# Altium footprint library PCB_CPU_BC.PcbLib: 27 footprints (part 2 of 2)
Each footprint in its own frame and in the unit in brackets; x right, y up, seen from the top. Pads: shape width x height; smd on the part's side, far side on the other; paste and mask are expansions set on the pad; w line width, h text height; cw(c..) or ccw(c..) is an arc to the next point about the centre after c.
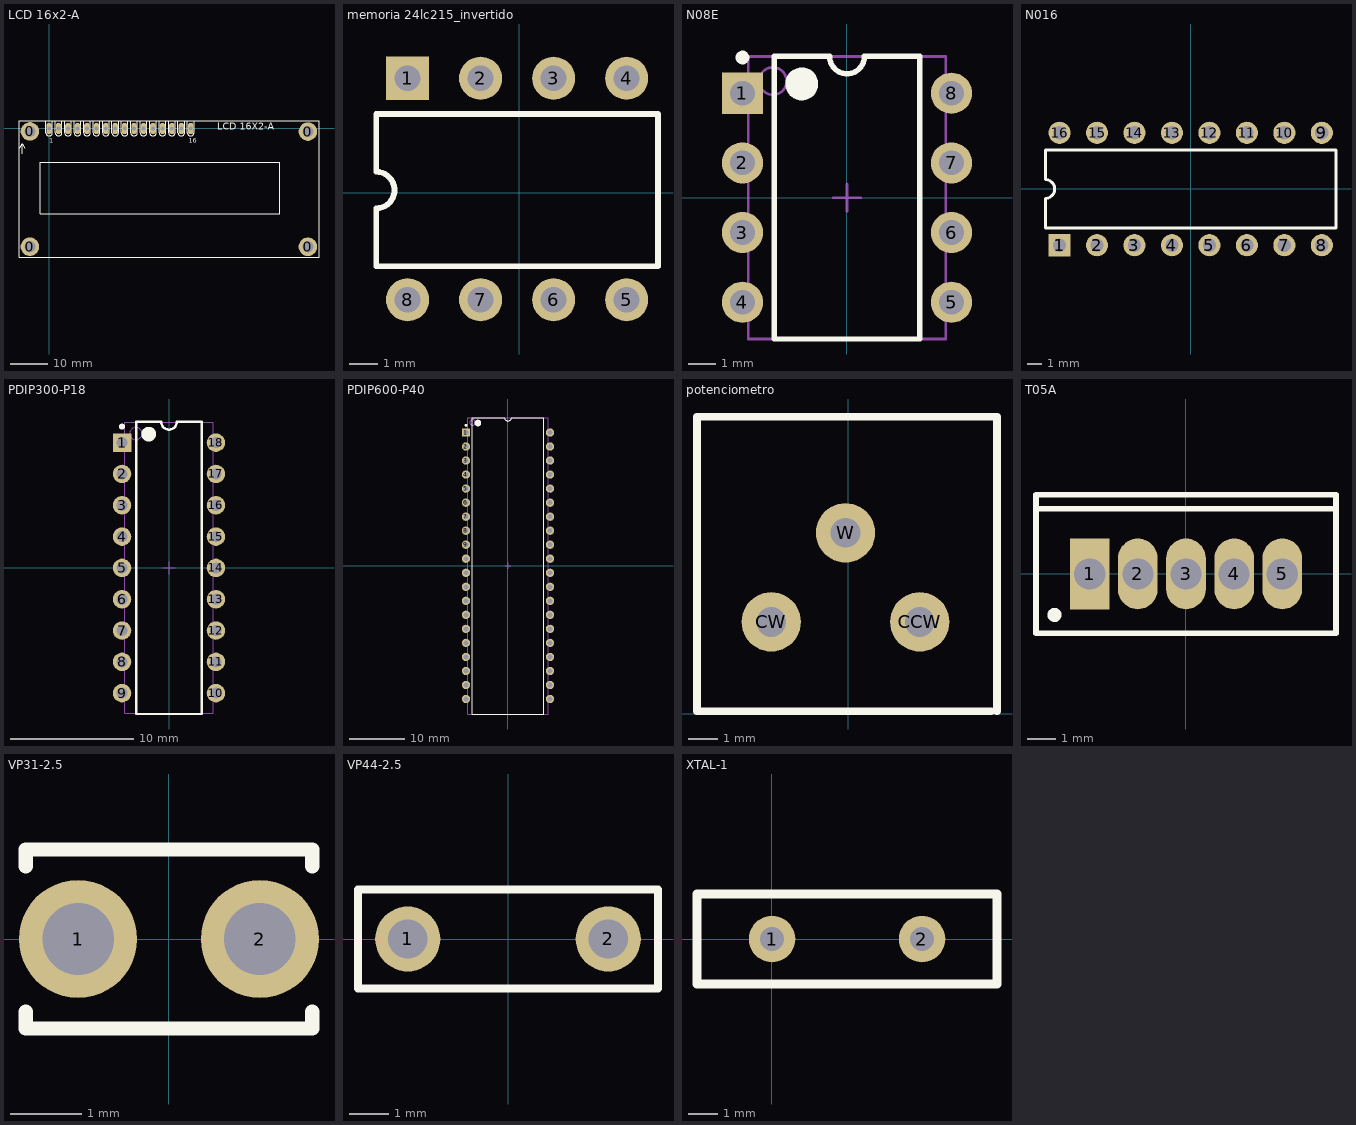
[diagram p1: the footprints below, top view; thin cyan lines are the x and y axes]

## LCD 16x2-A [mil] "Pantalla LCD 16 caracteres x 2 Lineas, conexion superior"
height 520.08
pads (20):
  round 196.85 hole 118.11: 0(-203.74,-1252.95) 0(-203.74,-31.5) 0(2742.13,-1253.94) 0(2742.13,-33.46)
  oct 60x120 hole 40: 1(0,0)
  oval 60x120 hole 40: 2(100,0) 3(200,0) 4(300,0) 5(400,0) 6(500,0) 7(600,0) 8(700,0) 9(800,0) 10(900,0) 11(1000,0) 12(1100,0) 13(1200,0) 14(1300,0) 15(1400,0) 16(1500,0)
Top Overlay:
  lines w5: -319.88,81.67 2859.25,81.67 2859.25,-1365.16 -319.88,-1365.16 -319.88,81.69 ; -310,-210 -285,-160 -260,-210 ; -285,-270.7 -285,-165 ; -35,81.69 -35,-45 ccw(c0,-45) 35,-45 35,80.71 ; 65,79.72 65,-45 ccw(c100,-45) 135,-45 135,80.71 ; 165,80.71 165,-45 ccw(c200,-45) 235,-45 235,80.71 ; 265,80.71 265,-45 ccw(c300,-45) 335,-45 335,80.71 ; 365,81.69 365,-45 ccw(c400,-45) 435,-45 435,81.69 ; 465,81.69 465,-45 ccw(c500,-45) 535,-45 535,79.72 ; 565,80.71 565,-45 ccw(c600,-45) 635,-45 635,81.69 ; 665,81.69 665,-45 ccw(c700,-45) 735,-45 735,81.5 ; 765,80.71 765,-45 ccw(c800,-45) 835,-45 835,80.71 ; 865,80.71 865,-45 ccw(c900,-45) 935,-45 935,80.71 ; 965,80.71 965,-45 ccw(c1000,-45) 1035,-45 1035,81.69 ; 1065,80.71 1065,-45 ccw(c1100,-45) 1135,-45 1135,81.69 ; 1165,80.71 1165,-45 ccw(c1200,-45) 1235,-45 1235,80.71 ; 1265,81.5 1265,-45 ccw(c1300,-45) 1335,-45 1335,79.72 ; 1365,79.72 1365,-45 ccw(c1400,-45) 1435,-45 1435,79.72 ; 1465,79.72 1465,-45 ccw(c1500,-45) 1535,-45 1535,78.74 ; -94.88,-901.6 2444.49,-901.6 2444.49,-358.3 -94.88,-358.3 -94.88,-901.6
  text "LCD 16X2-A" at 1781.26,-16.5 h75
  text "16" at 1480,-150 h50
  text "1" at 0,-150 h50
3D body: height 344.49, standoff -88.58, extent 1349.61,-50.2 1549.61,48.23
3D body: height 344.49, standoff -88.58, extent 1149.61,-50.2 1349.61,48.23
3D body: height 344.49, standoff -88.58, extent 949.61,-50.2 1149.61,48.23
3D body: height 344.49, standoff -88.58, extent 749.61,-50.2 949.61,48.23
3D body: height 344.49, standoff -88.58, extent 549.61,-50.2 749.61,48.23
3D body: height 344.49, standoff -88.58, extent 349.61,-50.2 549.61,48.23
3D body: height 344.49, standoff -88.58, extent 149.61,-50.2 349.61,48.23
3D body: height 344.49, standoff -88.58, extent -50.2,-50.2 149.8,48.23
3D body: height 532.11, standoff 12.11, extent -314.96,-1360.24 2854.33,76.77

## memoria 24lc215_invertido [mm] "potenciometro pequeño"
height 13.21
pads (8):
  rect 1.5x1.5 hole 0.9: 1(-3.878,3.988)
  round 1.5 hole 0.9: 2(-1.338,3.988) 3(1.202,3.988) 4(3.742,3.988) 5(3.742,-3.717) 6(1.202,-3.717) 7(-1.338,-3.717) 8(-3.878,-3.717)
Top Overlay:
  lines w0.2: -4.968,-2.552 4.832,-2.552 4.832,2.748 -4.968,2.748 -4.968,0.733 cw(c-4.968,0.098) -4.968,-0.537 -4.968,-2.552

## N08E [mm] "DIP, 8-Leads, Row Spacing 7.62mm, Pitch 2.54mm, Body 9.91x6.35mm"
height 5.34
pads (8):
  rect 1.5x1.5 hole 0.9: 1(-3.81,3.81)
  round 1.5 hole 0.9: 2(-3.81,1.27) 3(-3.81,-1.27) 4(-3.81,-3.81) 5(3.81,-3.81) 6(3.81,-1.27) 7(3.81,1.27) 8(3.81,3.81)
Top Overlay:
  circle w0.6: c-1.65,4.15 r0.3
  circle w0.25: c-3.81,5.11 r0.125
  lines w0.2: -2.65,-5.15 2.65,-5.15 2.65,5.15 0.635,5.15 cw(c0,5.15) -0.635,5.15 -2.65,5.15 -2.65,-5.15
Mechanical 13:
  circle w0.1: c-2.7,4.25 r0.5
  lines w0.1: -3.6,-5.15 3.6,-5.15 3.6,5.15 -3.6,5.15 -3.6,-5.15
Mechanical 15:
  lines w0.1: -0.5,0 0.5,0 ; 0,-0.5 0,0.5
3D body: height 5.34, standoff 0, extent -3.6,-5.15 3.6,5.15

## N016 [mm] "DIP; 16 Leads; Row Spacing 7.62 mm; Pitch 2.54 mm"
height 5.08
pads (16):
  rect 1.5x1.5 hole 0.9: 1(-8.89,-3.81)
  round 1.5 hole 0.9: 2(-6.35,-3.81) 3(-3.81,-3.81) 4(-1.27,-3.81) 5(1.27,-3.81) 6(3.81,-3.81) 7(6.35,-3.81) 8(8.89,-3.81) 9(8.89,3.81) 10(6.35,3.81) 11(3.81,3.81) 12(1.27,3.81) 13(-1.27,3.81) 14(-3.81,3.81) 15(-6.35,3.81) 16(-8.89,3.81)
Top Overlay:
  lines w0.2: -9.85,-2.65 -9.85,-0.635 ccw(c-9.85,0) -9.85,0.635 -9.85,2.65 9.85,2.65 9.85,-2.65 -9.85,-2.65

## PDIP300-P18 [mm] "DIP, 18-Leads, Row Spacing 7.62mm, Pitch 2.54mm, Body 22.9x6.6mm"
height 5.34
pads (18):
  rect 1.5x1.5 hole 0.9: 1(-3.81,10.16)
  round 1.5 hole 0.9: 2(-3.81,7.62) 3(-3.81,5.08) 4(-3.81,2.54) 5(-3.81,0) 6(-3.81,-2.54) 7(-3.81,-5.08) 8(-3.81,-7.62) 9(-3.81,-10.16) 10(3.81,-10.16) 11(3.81,-7.62) 12(3.81,-5.08) 13(3.81,-2.54) 14(3.81,0) 15(3.81,2.54) 16(3.81,5.08) 17(3.81,7.62) 18(3.81,10.16)
Top Overlay:
  circle w0.25: c-3.81,11.46 r0.125
  circle w0.6: c-1.65,10.85 r0.3
  lines w0.2: -2.65,-11.85 -2.65,11.85 -0.635,11.85 ccw(c0,11.85) 0.635,11.85 2.65,11.85 2.65,-11.85 -2.65,-11.85
Mechanical 13:
  circle w0.1: c-2.7,10.9 r0.5
  lines w0.1: -3.6,-11.8 -3.6,11.8 3.6,11.8 3.6,-11.8 -3.6,-11.8
Mechanical 15:
  lines w0.1: -0.5,0 0.5,0 ; 0,-0.5 0,0.5
3D body: height 5.34, standoff 0, extent -3.6,-11.8 3.6,11.8

## PDIP600-P40 [mm] "DIP, 40-Leads, Row Spacing 15.24mm, Pitch 2.54mm, Body 51.8x13.5mm"
height 6.35
pads (40):
  rect 1.5x1.5 hole 0.9: 1(-7.62,24.13)
  round 1.5 hole 0.9: 2(-7.62,21.59) 3(-7.62,19.05) 4(-7.62,16.51) 5(-7.62,13.97) 6(-7.62,11.43) 7(-7.62,8.89) 8(-7.62,6.35) 9(-7.62,3.81) 10(-7.62,1.27) 11(-7.62,-1.27) 12(-7.62,-3.81) 13(-7.62,-6.35) 14(-7.62,-8.89) 15(-7.62,-11.43) 16(-7.62,-13.97) 17(-7.62,-16.51) 18(-7.62,-19.05) 19(-7.62,-21.59) 20(-7.62,-24.13) 21(7.62,-24.13) 22(7.62,-21.59) 23(7.62,-19.05) 24(7.62,-16.51) 25(7.62,-13.97) 26(7.62,-11.43) 27(7.62,-8.89) 28(7.62,-6.35) 29(7.62,-3.81) 30(7.62,-1.27) 31(7.62,1.27) 32(7.62,3.81) 33(7.62,6.35) 34(7.62,8.89) 35(7.62,11.43) 36(7.62,13.97) 37(7.62,16.51) 38(7.62,19.05) 39(7.62,21.59) 40(7.62,24.13)
Top Overlay:
  circle w0.25: c-7.62,25.43 r0.125
  circle w0.6: c-5.45,25.85 r0.3
  lines w0.2: -6.45,-26.85 -6.45,26.85 -0.635,26.85 ccw(c0,26.85) 0.635,26.85 6.45,26.85 6.45,-26.85 -6.45,-26.85
Mechanical 13:
  circle w0.1: c-6.4,25.95 r0.5
  lines w0.1: -7.3,-26.85 -7.3,26.85 7.3,26.85 7.3,-26.85 -7.3,-26.85
Mechanical 15:
  lines w0.1: -0.5,0 0.5,0 ; 0,-0.5 0,0.5
3D body: height 6.35, standoff 0, extent -7.3,-26.85 7.3,26.85

## potenciometro [mm] "potenciometro pequeño"
height 13.21
pads (3):
  round 2 hole 1: CCW(2.4,3.1) CW(-2.6,3.1) W(-0.1,6.1)
Top Overlay:
  lines w0.254: -5.1,10 -5.1,0.1 4.8,0.1 ; -5,10 4.9,10 ; 5,0.1 5,10

## T05A [mm] "TO, Thru-Hole, Vertical, Heatsink Mounted; 5 In-Line Leads; Pitch 1.70 mm"
height 19.6
pads (5):
  rect 1.4x2.5 hole 1.1: 1(-3.4,0)
  oval 1.4x2.5 hole 1.1: 2(-1.7,0) 3(0,0) 4(1.7,0) 5(3.4,0)
Top Overlay:
  circle w0.25: c-4.65,-1.45 r0.125
  lines w0.2: -5.3,2.3 5.3,2.3 ; -5.3,-2.1 -5.3,2.8 5.3,2.8 5.3,-2.1 -5.3,-2.1
Mechanical 13:
  lines w0.1: -5.3,2.3 5.3,2.3 ; -5.3,-2.1 5.3,-2.1 5.3,2.8 -5.3,2.8 -5.3,-2.1 ; -3.91,-0.28 -2.89,-0.28 -2.89,0.28 -3.91,0.28 -3.91,-0.28 ; -2.21,-0.28 -1.19,-0.28 -1.19,0.28 -2.21,0.28 -2.21,-0.28 ; -0.51,-0.28 0.51,-0.28 0.51,0.28 -0.51,0.28 -0.51,-0.28 ; 1.19,-0.28 2.21,-0.28 2.21,0.28 1.19,0.28 1.19,-0.28 ; 2.89,-0.28 3.91,-0.28 3.91,0.28 2.89,0.28 2.89,-0.28
Mechanical 15:
  lines w0.1: -0.5,0 0.5,0 ; 0,-0.5 0,0.5
3D body: height 4.1, standoff 0, extent -3.909,-0.279 -2.891,0.279
3D body: height 4.1, standoff 0, extent -2.209,-0.279 -1.191,0.279
3D body: height 4.1, standoff 0, extent 1.191,-0.279 2.209,0.279
3D body: height 4.1, standoff 0, extent 2.891,-0.279 3.909,0.279
3D body: height 4.1, standoff 0, extent -0.509,-0.279 0.509,0.279
3D body: height 19.6, standoff 13, extent -5.299,2.301 5.299,2.799
3D body: height 13, standoff 4.1, extent -5.35,-2.15 5.35,2.85

## VP31-2.5 [mm] "Capacitor, Ceramic, Thru-Hole, Dipped Radial; Body 4 x 2.5 mm (WxT) Pin Spacing 2.54 mm (typ)"
height 4.6
pads (2):
  round 1.65 hole 1: 1(-1.27,0) 2(1.27,0)
Top Overlay:
  lines w0.2: -2,-1.015 -2,-1.25 2,-1.25 2,-1.015 ; -2,1.015 -2,1.25 2,1.25 2,1.015

## VP44-2.5 [mm] "Capacitor, Ceramic, Thru-Hole, Dipped Radial; Body 7.6 x 2.5 mm (WxT) Pin Spacing 5.08 mm (typ)"
height 9
pads (2):
  round 1.65 hole 1: 1(-2.54,0) 2(2.54,0)
Top Overlay:
  lines w0.2: -3.8,-1.25 3.8,-1.25 3.8,1.25 -3.8,1.25 -3.8,-1.25

## XTAL-1 [mil]
pads (2):
  round 62 hole 31.5: 1(0,0) 2(200,0)
Top Overlay:
  lines w12: -100,-60 -100,60 300,60 300,-60 -100,-60